# Altium footprint library 1EDN7550UXTSA1.PcbLib: 1 footprints
Each footprint in its own frame and in the unit in brackets; x right, y up, seen from the top. Pads: shape width x height; smd on the part's side, far side on the other; paste and mask are expansions set on the pad; w line width, h text height; cw(c..) or ccw(c..) is an arc to the next point about the centre after c.
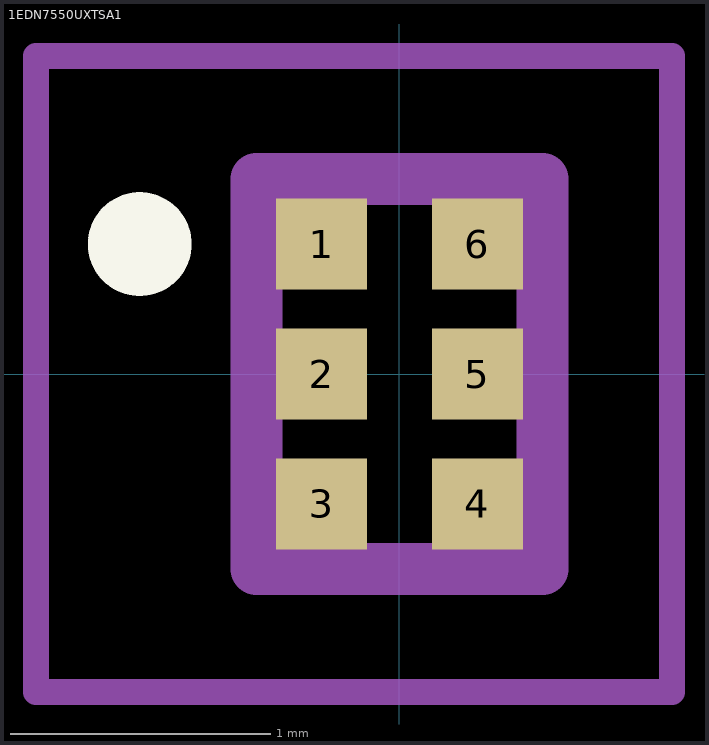
[diagram p0: the footprint, top view; thin cyan lines are the x and y axes]

## 1EDN7550UXTSA1 [mm]
pads (6):
  rect 0.35x0.35 smd: 1(-0.3,0.5) 2(-0.3,0) 3(-0.3,-0.5) 4(0.3,-0.5) 5(0.3,0) 6(0.3,0.5)
Top Overlay:
  lines w0.2: -1,0.4 cw(c-1,0.5) -1,0.6 ; -1,0.4 -1,0.4 ; -1,0.4 ccw(c-1,0.5) -1,0.6 ; -1,0.6 -1,0.6
Mechanical 15:
  lines w0.2: -0.55,-0.75 0.55,-0.75 0.55,0.75 -0.55,0.75 -0.55,-0.75
Mechanical 20:
  lines w0.1: -1.4,-1.225 1.05,-1.225 1.05,1.225 -1.4,1.225 -1.4,-1.225